# Altium footprint library PcbLib2.PcbLib: 8 footprints
Each footprint in its own frame and in the unit in brackets; x right, y up, seen from the top. Pads: shape width x height; smd on the part's side, far side on the other; paste and mask are expansions set on the pad; w line width, h text height; cw(c..) or ccw(c..) is an arc to the next point about the centre after c.
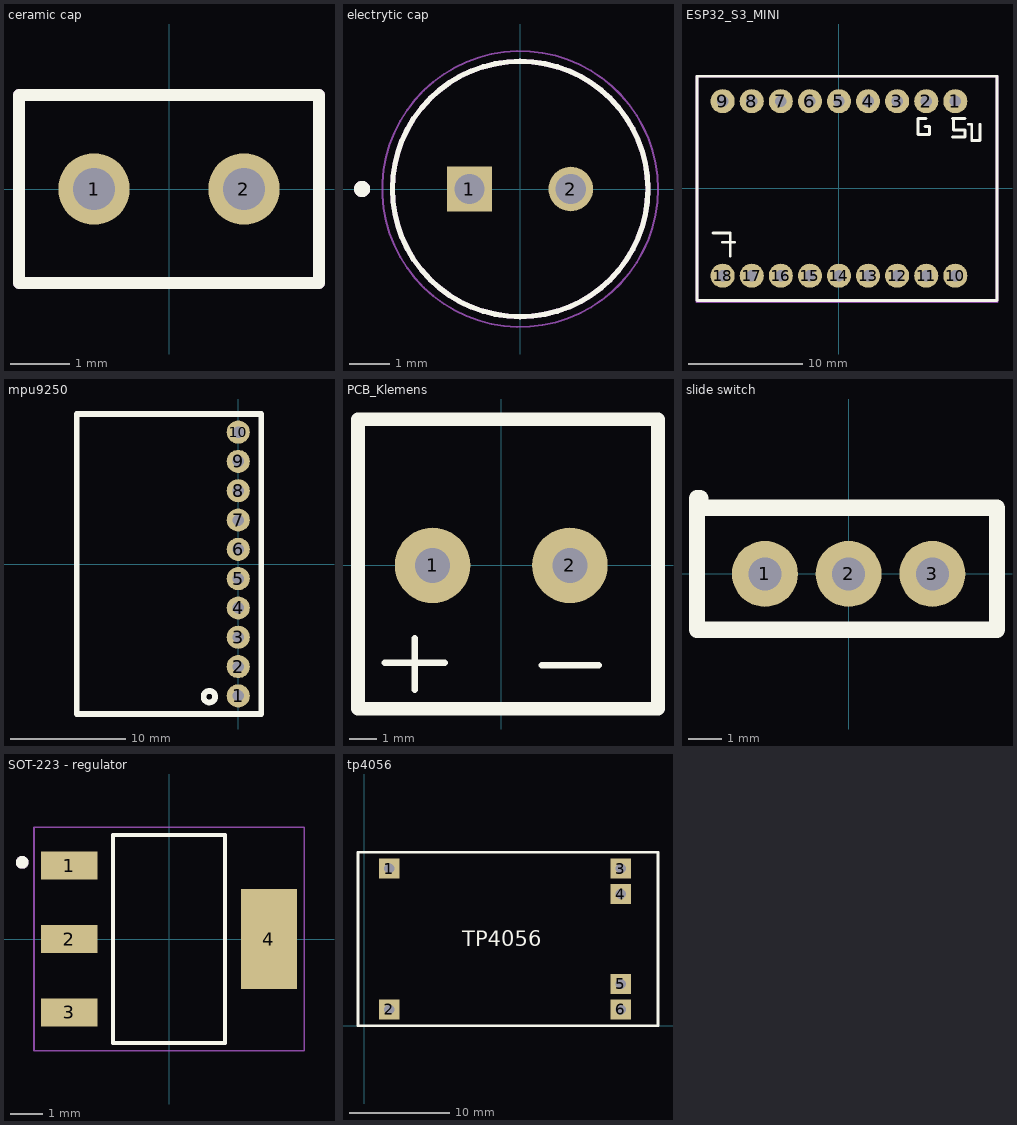
[diagram p0: the footprints below, top view; thin cyan lines are the x and y axes]

## ceramic cap [mm]
pads (2):
  round 1.21 hole 0.71: 1(-1.27,0) 2(1.27,0)
Top Overlay:
  lines w0.2: -2.54,-1.59 2.54,-1.59 2.54,1.59 -2.54,1.59 -2.54,-1.59
Mechanical 13:
  lines w0.2: -2.54,-1.59 2.54,-1.59 2.54,1.59 -2.54,1.59 -2.54,-1.59
3D body "step_temp.STEP": height 6.34, standoff -7, extent -2.622,-1.575 2.453,1.605

## electrytic cap [mm]
pads (2):
  rect 1.1x1.1 hole 0.75: 1(-1.25,0)
  round 1.1 hole 0.75: 2(1.25,0)
Top Overlay:
  circle w0.127: c0,0 r3.15
  circle w0.2: c-3.9,0 r0.1
Mechanical 13:
  circle w0.127: c0,0 r3.15
  circle w0.2: c-3.9,0 r0.1
Mechanical 15:
  circle w0.05: c0,0 r3.4
3D body "step_temp.STEP": height 11.2, standoff -17, extent -3.15,-3.149 3.15,3.149

## ESP32_S3_MINI [mm]
pads (18):
  round 2.1 hole 1 mask+0.05: 1(10.16,7.62) 2(7.62,7.62) 3(5.08,7.62) 4(2.54,7.62) 5(0,7.62) 6(-2.54,7.62) 7(-5.08,7.62) 8(-7.62,7.62) 9(-10.16,7.62) 10(10.16,-7.62) 11(7.62,-7.62) 12(5.08,-7.62) 13(2.54,-7.62) 14(0,-7.62) 15(-2.54,-7.62) 16(-5.08,-7.62) 17(-7.62,-7.62) 18(-10.16,-7.62)
Top Overlay:
  lines w0.25: -11,-3.9 -9.5,-3.9 -9.5,-5.9 ; -10.2,-4.7 -9.1,-4.7 ; 7.5,5.4 7.9,5.4 7.9,4.7 6.9,4.7 6.9,5.8 6.9,6.1 7.6,6.1 ; 9.9,4.5 11,4.5 11,5.1 10,5.1 10,6.1 9.9,6.1 11,6.1 ; 11.3,5.6 11.6,5.6 11.6,4.2 12.3,4.2 12.3,5.6 ; -12.4,-9.8 13.8,-9.8 13.8,9.8 -12.4,9.8 -12.4,-9.8
  text ".Designator" at 3.8,10.666 h2
Mechanical 1:
  lines w0.25: -12.4,-9.9 -12.4,9.2 -12.4,9.8 13.8,9.8 13.8,9.2 13.8,-9.9 -12.4,-9.9
3D body "ESP32-S3_Zero.step": height 4.71, standoff -0.21, extent -11.75,-9 12.8,9

## mpu9250 [mm]
pads (10):
  round 2 hole 1 mask+0.025: 1(0,-11.43) 2(0,-8.89) 3(0,-6.35) 4(0,-3.81) 5(0,-1.27) 6(0,1.27) 7(0,3.81) 8(0,6.35) 9(0,8.89) 10(0,11.43)
Top Overlay:
  circle w0.5: c-2.5,-11.5 r0.5
  lines w0.5: -14,-13 2,-13 2,13 -14,13 -14,12.5 -14,-13
  text ".Designator" at -12.2,0.966 h2
3D body "MPU-9250.stp": height 1.7, standoff -11.07, extent -13.6,-12.93 1.4,12.47

## PCB_Klemens [mm]
pads (2):
  round 2.8 hole 1.3 mask+0.05: 1(-2.54,0) 2(2.54,0)
Top Overlay:
  lines w0.25: -4.3,-3.6 -2.1,-3.6 ; -3.2,-4.6 -3.2,-2.7 ; 1.5,-3.7 3.6,-3.7
  lines w0.5: -5.3,-5.3 5.8,-5.3 5.8,5.4 -5.3,5.4 -5.3,5.1 -5.3,-5.3
  text ".Designator" at -0.9,6.133 h1
3D body "2er Terminal Block.step": height 14, standoff -4.25, extent -5.48,-5 5.08,5

## slide switch [mm]
pads (3):
  round 2 hole 1 mask+0.025: 1(-2.54,0) 2(0,0) 3(2.54,0)
Top Overlay:
  lines w0.5: -4.6,-1.7 -4.6,1.6 -4.6,2.3 -4.5,2.3 -4.5,2 4.5,2 4.5,-1.3 4.5,-1.7 -4.6,-1.7
  text ".Designator" at -4,-0.934 h2
3D body "SS12D00G3 Switch.STEP": height 7.15, standoff -3.45, extent -4.25,-1.85 4.25,1.85

## SOT-223 - regulator [mm]
pads (4):
  rect 1.76x0.88 smd: 1(-3.125,2.3) 2(-3.125,0) 3(-3.125,-2.3)
  rect 1.76x3.14 smd: 4(3.125,0)
Top Overlay:
  circle w0.2: c-4.6,2.4 r0.1
  lines w0.127: -1.75,-3.25 -1.75,3.25 1.75,3.25 1.75,-3.25 -1.75,-3.25
Mechanical 13:
  circle w0.2: c-4.6,2.4 r0.1
  lines w0.127: -1.75,-3.25 1.75,-3.25 1.75,3.25 -1.75,3.25 -1.75,-3.25
Mechanical 15:
  lines w0.05: -4.23,-3.5 4.23,-3.5 4.23,3.5 -4.23,3.5 -4.23,-3.5
3D body "step_temp.STEP": height 1.8, standoff 0, extent -3.5,-3.25 3.5,3.25

## tp4056 [mm]
pads (6):
  rect 2x2 hole 1.016: 1(2.5,15.6) 2(2.5,1.6) 3(25.5,15.6) 4(25.5,13.06) 5(25.5,4.14) 6(25.5,1.6)
Top Overlay:
  lines w0.254: -0.6,0 29.2,0 29.2,17.2 -0.6,17.2 -0.6,0
  text "TP4056" at 9.779,7.874 h1.52
3D body "TP4056_Charging_Module_Type_C.step": height 4.14, standoff 0, extent -0.25,-0.1 29.05,17.3